# Altium schematic symbol library SchlibStorage.SchLib: 1 symbol
Pins are listed as number, name and electrical type; pins without a type are passive.

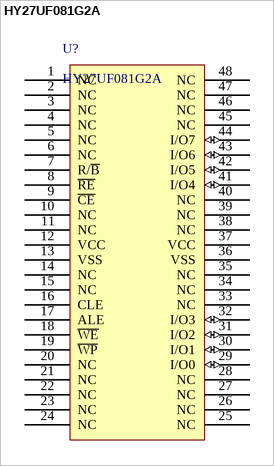
[diagram p0: symbol HY27UF081G2A]

## HY27UF081G2A
designator U?
footprint HY27UF(08/16)1G2A TSOP
pins: 1 NC, 2 NC, 3 NC, 4 NC, 5 NC, 6 NC, 7 R/~{B}, 8 ~{RE}, 9 ~{CE}, 10 NC, 11 NC, 12 VCC (power), 13 VSS (power), 14 NC, 15 NC, 16 CLE, 17 ALE, 18 ~{WE}, 19 ~{WP}, 20 NC, 21 NC, 22 NC, 23 NC, 24 NC, 25 NC, 26 NC, 27 NC, 28 NC, 29 I/O0 (io), 30 I/O1 (io), 31 I/O2 (io), 32 I/O3 (io), 33 NC, 34 NC, 35 NC, 36 VSS (power), 37 VCC (power), 38 NC, 39 NC, 40 NC, 41 I/O4 (io), 42 I/O5 (io), 43 I/O6 (io), 44 I/O7 (io), 45 NC, 46 NC, 47 NC, 48 NC